# Altium footprint library SG__PCB_Mechanical.PcbLib: 20 footprints (part 1 of 2)
Each footprint in its own frame and in the unit in brackets; x right, y up, seen from the top. Pads: shape width x height; smd on the part's side, far side on the other; paste and mask are expansions set on the pad; w line width, h text height; cw(c..) or ccw(c..) is an arc to the next point about the centre after c.
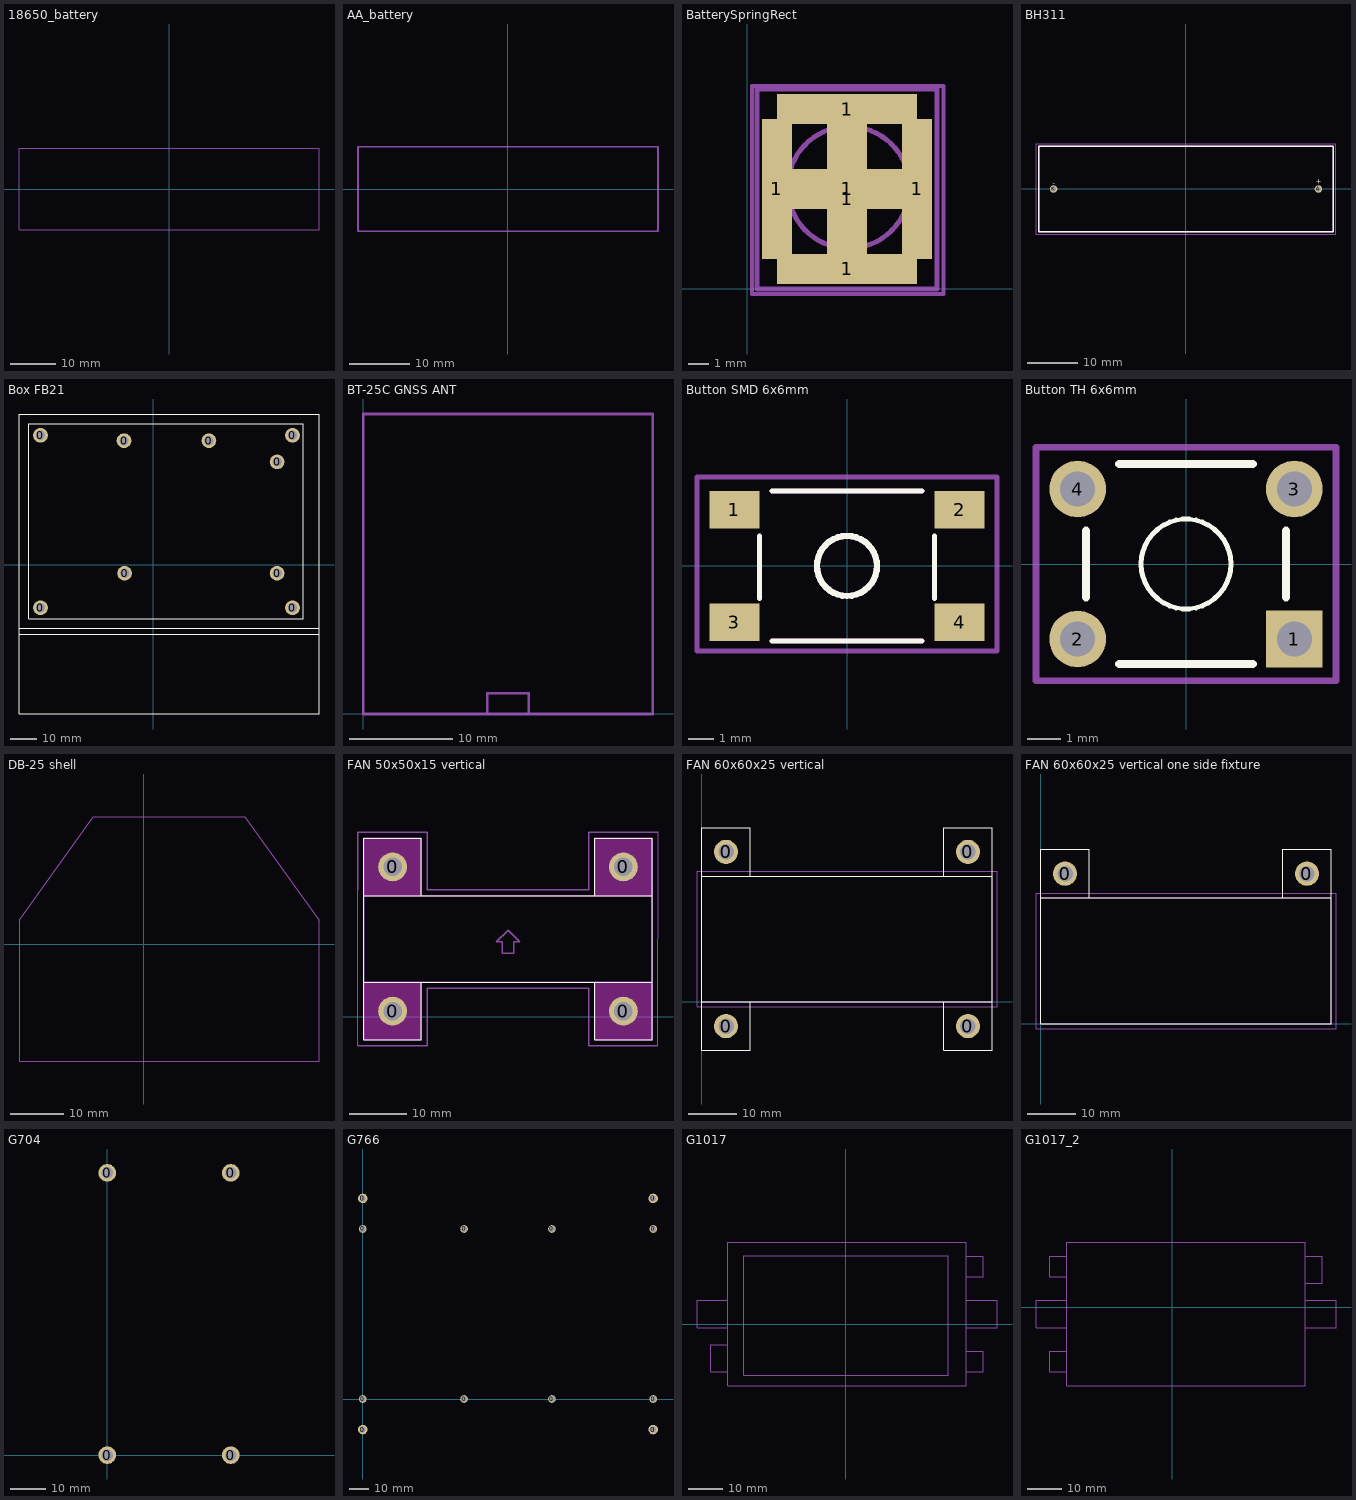
[diagram p0: the footprints below, top view; thin cyan lines are the x and y axes]

## 18650_battery [mm]
Top Assembly:
  lines w0.254: -33,-9 33,-9 33,9 -33,9 -33,-9
  text "+" at -26.666,-2.499 h5
  text "-" at 26.666,2.499 h5
3D body "Cell 18650.STEP": height 19, standoff 1, extent -32.5,-8.987 32.5,8.987

## AA_battery [mm]
Top Assembly:
  lines w0.254: -24.9,-7 24.9,-7 24.9,7 -24.9,7 -24.9,-7
  text "+" at -21.666,-2.499 h5
  text "-" at 21.666,2.499 h5
3D body "User Library-BATTERY_AA.step": height 14.51, standoff 0.49, extent -24.9,-7.008 24.9,7.01

## BatterySpringRect [mm]
pads (6):
  rect 1.5x7 smd: 1(1.5,5) 1(8.5,5)
  rect 7x1.5 smd: 1(5,1) 1(5,9)
  rect 2x8 smd: 1(5,4.5)
  rect 8x2 smd: 1(5,5)
Top Assembly:
  circle w0.254: c5.08,5.08 r3.048
  lines w0.254: 0.5,0 0.5,10 9.5,10 9.5,0 0.5,0
Top Courtyard:
  lines w0.2: 0.254,-0.254 9.825,-0.254 9.825,10.16 0.254,10.16 0.254,-0.254
3D body "BatteryShrapnel2.stp": height 5.75, standoff 0, extent 0.5,0 9.5,10

## BH311 [mm] "Battery holder AA"
pads (2):
  round 1.5 hole 0.9: A(26.3,0) K(-26.3,0)
Top Overlay:
  lines w0.254: -29.25,-8.5 29.25,-8.5 29.25,8.5 -29.25,8.5 -29.25,-8.5
  text "+" at 25.754,1.087 h1
  text "-" at -26.446,0.754 h1
Top Assembly:
  lines w0.254: -29.25,-8.5 29.25,-8.5 29.25,8.5 -29.25,8.5 -29.25,-8.5
Top Courtyard:
  lines w0.2: -29.8,-9 29.8,-9 29.8,9 -29.8,9 -29.8,-9
3D body "BH311 AA Battery Holder.STEP": height 15.3, standoff -8, extent -29.05,-8.4 29.25,8.4

## Box FB21 [mm]
pads (9):
  round 5.55 hole 3.55: 0(-42.5,-16.3) 0(-42.5,48.7) 0(-11,46.7) 0(-10.8,-3.3) 0(21,46.7) 0(46.7,-3.3) 0(46.7,38.7) 0(52.5,-16.3) 0(52.5,48.7)
Top Overlay:
  lines w0.254: -50.6,-24.1 62.4,-24.1 ; 62.5,-26.2 -50.6,-26.2 -50.6,-55.9 ; -50.6,-55.9 -50.6,-56.3 62.5,-56.3 62.5,56.7 -50.6,56.7 -50.6,-55.9 ; -47,-20.5 -47,53 56.5,53 56.5,-19.6 56.5,-20.5 -46.5,-20.5 -47,-20.5
Mechanical 1:
  lines w0.254: -11,45.3 -11,46.7 -11,48.6 ; 52.4,46.7 52.5,46.6 ; -42.5,46.7 -42.5,48.7 -42.5,46.7
3D body "BOX-FB21.stp": height 8, standoff -6, extent -50.5,-56.2 62.5,56.8

## BT-25C GNSS ANT [mm] "GNSS antenna"
Top Assembly:
  lines w0.254: 12,0 12,2 16,2 16,0 ; 0,0 28,0 28,29 0,29 0,0
3D body "BT-25C.stp": height 10.7, standoff 4.5, extent 0,0 28,28.5

## Button SMD 6x6mm [mm] "Button 4 pin"
pads (4):
  rect 2x1.5 smd: 1(-4.5,2.25) 2(4.5,2.25) 3(-4.5,-2.25) 4(4.5,-2.25)
Top Overlay:
  circle w0.254: c0,0 r1.2
  lines w0.2: -3.5,-1.3 -3.5,1.2 ; -3,-3 3,-3 ; -3,3 3,3 ; 3.5,-1.3 3.5,1.2
Top Assembly:
  circle w0.254: c0,0 r1.2
  lines w0.2: -3.5,-1.3 -3.5,1.2 ; -3,-3 3,-3 ; -3,3 3,3 ; 3.5,-1.3 3.5,1.2
Top Courtyard:
  lines w0.2: -6,-3.4 -6,3.556 6,3.556 6,-3.4 -6,-3.4
3D body "User Library-FSM4JSMATR - TE Connectivity - SPST 6mm Tactile Switch.step": height 5.07, standoff 0.1, extent -5,-3 5,3

## Button TH 6x6mm [mm] "Button 4 pin"
pads (4):
  rect 1.7x1.7 hole 1.05: 1(3.25,-2.25)
  round 1.7 hole 1.05: 2(-3.25,-2.25) 3(3.25,2.25) 4(-3.25,2.25)
Top Overlay:
  circle w0.15: c0,0 r1.346
  circle w0.15: c3.85,-2.3 r0.05
  lines w0.254: -3,-1 -3,1 ; -2,-3 2,-3 ; -2,3 2,3 ; 3,-1 3,1
Top Courtyard:
  lines w0.2: -4.5,-3.5 -4.5,3.5 4.5,3.5 4.5,-3.5 -4.5,-3.5
3D body "User Library-KLS7-TS6601-7.STEP": height 7.64, standoff -2.86, extent -3.95,-3 3.95,3

## DB-25 shell [mm]
Top Assembly:
  lines w0.2: -23.5,-22 -23.5,4.5 -9.5,24 19,24 33,4.5 33,-22 -23.5,-22
3D body "DB-25 Shell.STEP": height 12.61, standoff -2.19, extent -23.359,-26.406 33.141,29.094

## FAN 50x50x15 vertical [mm]
pads (4):
  round 5 hole 3.2: 0(10,1) 0(10,26) 0(50,1) 0(50,26)
Top Overlay:
  lines w0.2: 15,6 15,-4 5,-4 5,6 ; 15,21 15,31 5,31 5,21 ; 45,6 45,-4 55,-4 55,6 ; 45,21 45,31 55,31 55,21 ; 5,6 55,6 ; 5,6 5,21 ; 5,21 55,21 ; 55,6 55,21
Keep-Out Layer:
  rectangle: 5,21 15,31
  rectangle: 45,-4 55,6
  rectangle: 5,-4 15,6
  rectangle: 45,21 55,31
Top Assembly:
  lines w0.2: 5,6 5,21 55,21 55,6 5,6
  lines w0.254: 45,6 45,-4 55,-4 55,6 ; 45,21 45,31 55,31 55,21 ; 5,6 5,21 ; 5,6 55,6 ; 5,6 5,-4 15,-4 15,6 ; 5,21 55,21 ; 5,21 5,31 15,31 15,21 ; 15,6 15,6 ; 15,21 15,21 ; 55,6 55,21 ; 28,13 30,15 32,13 31,13 31,11 29,11 29,13 28,13
Top Courtyard:
  lines w0.2: 4,-5 4,22 ; 56,-5 56,32
  lines w0.254: 4,-5 16,-5 16,5 44,5 44,-5 56,-5 ; 4,22 4,32 16,32 16,22 44,22 44,32 56,32
3D body "FAN 50x50x15mm.step": height 50, standoff 0, extent 5,6 55,21

## FAN 60x60x25 vertical [mm]
pads (4):
  round 5 hole 3.2: 0(5,-5) 0(5,31) 0(55,-5) 0(55,31)
Top Overlay:
  lines w0.2: 10,0 10,-10 0,-10 0,0 ; 10,26 10,36 0,36 0,26 ; 50,0 50,-10 60,-10 60,0 ; 50,26 50,36 60,36 60,26 ; 0,0 0,26 ; 0,0 60,0 ; 0,26 60,26 ; 60,0 60,26
Top Assembly:
  lines w0.2: 0,0 60,0 60,26 0,26 0,0
Top Courtyard:
  lines w0.2: -1,-1 61,-1 61,27 -1,27 -1,-1
3D body "612NMI_ebm-papst.step": height 60, standoff 0, extent 0,0.3 60,25.7

## FAN 60x60x25 vertical one side fixture [mm]
pads (2):
  round 5 hole 3.2: 0(5,31) 0(55,31)
Top Overlay:
  lines w0.2: 10,26 10,36 0,36 0,26 ; 50,26 50,36 60,36 60,26 ; 0,26 60,26 ; 0,26 0,0 60,0 60,26
Top Assembly:
  lines w0.2: 0,0 0,26 60,26 60,0 0,0
Top Courtyard:
  lines w0.2: -1,-1 -1,27 61,27 61,-1 -1,-1
3D body "612NMI_ebm-papst.step": height 60, standoff 0, extent 0,0.3 60,25.7

## G704 [mm]
pads (4):
  round 5 hole 3.2: 0(0,0) 0(0,80) 0(35,0) 0(35,80)
3D body "G407_upper.stp": height 19.96, standoff 2.96, extent -12.6,-20 48,100
3D body "G407_lower.stp": height 16.76, standoff -10.04, extent -12.6,-20 48,100

## G766 [mm] "box"
pads (12):
  round 5 hole 3 unplated: 0(0,-16) 0(0,105) 0(152,-16) 0(152,105)
  round 4 hole 3 unplated: 0(0,0) 0(0,89) 0(53,0) 0(53,89) 0(99,0) 0(99,89) 0(152,0) 0(152,89)
3D body "G766.step": height 14.65, standoff -8, extent -18.975,-24.5 171.025,113.5

## G1017 [mm]
Top Assembly:
  lines w0.254: -34.65,-14.025 -39.65,-14.025 -39.65,-6.025 -34.65,-6.025 ; -34.65,-1.025 -43.65,-1.025 -43.65,6.975 -41.65,6.975 -34.65,6.975 ; 35.35,-14.025 40.35,-14.025 40.35,-8.025 35.35,-8.025 ; 35.35,-1.025 42.35,-1.025 44.35,-1.025 44.35,6.975 35.35,6.975 ; 35.35,13.975 40.35,13.975 40.35,19.975 35.35,19.975 ; -34.65,-18.025 -34.65,23.975 35.35,23.975 35.35,-18.025 -34.65,-18.025 ; -30,-15 -29,-15 30,-15 30,20 -30,20 -30,-15
3D body "g1017.STEP": height 7, standoff 1, extent -42.5,-19 42.5,24

## G1017_2 [mm]
Top Assembly:
  lines w0.254: -31,-19 -36,-19 -36,-13 -31,-13 ; -31,-6 -40,-6 -40,2 -38,2 -31,2 ; -31,9 -36,9 -36,15 -31,15 ; 39,-6 46,-6 48,-6 48,2 39,2 ; 39,7 44,7 44,15 39,15 ; -31,-23 -31,19 39,19 39,-23 -31,-23
3D body "g1017_2.STEP": height 1, standoff -24, extent -40,-24 48,20